# Altium integrated library CRCW06031K74FKEA.IntLib: 1 symbol
Pins are listed as number, name and electrical type; pins without a type are passive.

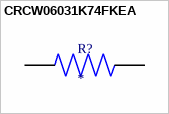
[diagram p0: symbol CRCW06031K74FKEA]

## CRCW06031K74FKEA
designator R?
Resistor;Thick Film;1.74 Kilohms;0.1 W;1%;SMT;0603;TCR 37 ppm/DegC;Tape and Reel | Vishay Dale CRCW06031K74FKEA; SnapEDA_Link: https://www.snapeda.com/parts/CRCW06031K74FKEA/Vishay/view-part/?ref=snap; Package: 1508 Vishay; Value: *; MF: Vishay; MP: CRCW06031K74FKEA; Check_prices: https://www.snapeda.com/parts/CRCW06031K74FKEA/Vishay/view-part/?ref=eda
footprint RESC1508X50N
pins: 1, 2